# EAGLE library part ADG5408 (library ADC)
ADG5408 edit this description Auto generated by make-symbol-device-package-bsdl.ulp Rev. 43 Source: ADG5408.txt
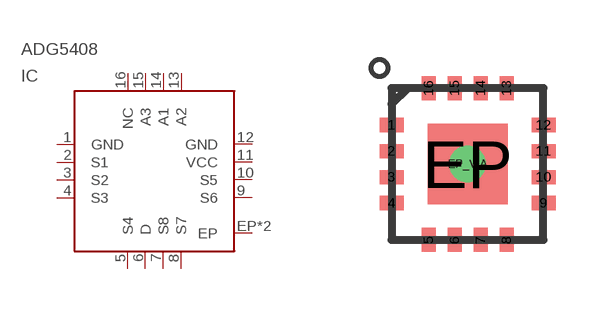
[diagram p2: symbol with the pads of LFCSP16-4X4; footprint LFCSP16-4X4]

Designator prefix IC

## ADG5408  [LFCSP16-4X4]
1  GND  pwr
2  S1
3  S2
4  S3
5  S4
6  D
7  S8
8  S7
9  S6
10  S5
11  VCC  pwr
12  GND  pwr
13  A2
14  A1
15  A3
16  NC
EP  EP
EP_VIA  EP

## Footprint LFCSP16-4X4 (pad centres in mm)
LFCSP16-4X4 Auto generated by make-symbol-device-package-bsdl.ulp Rev. 43
smd 0.6 x 0.35: 1 -1.9,0.975; 2 -1.9,0.325; 3 -1.9,-0.325; 4 -1.9,-0.975; 9 1.9,-0.975; 10 1.9,-0.325; 11 1.9,0.325; 12 1.9,0.975
smd 0.35 x 0.6: 5 -0.975,-1.9; 6 -0.325,-1.9; 7 0.325,-1.9; 8 0.975,-1.9; 13 0.975,1.9; 14 0.325,1.9; 15 -0.325,1.9; 16 -0.975,1.9
smd 2 x 2: EP 0,0
drill 0.4: EP_VIA 0,0